# Altium schematic symbol library CX3_Camera.SchLib: 21 symbols
Pins are listed as number, name and electrical type; pins without a type are passive.

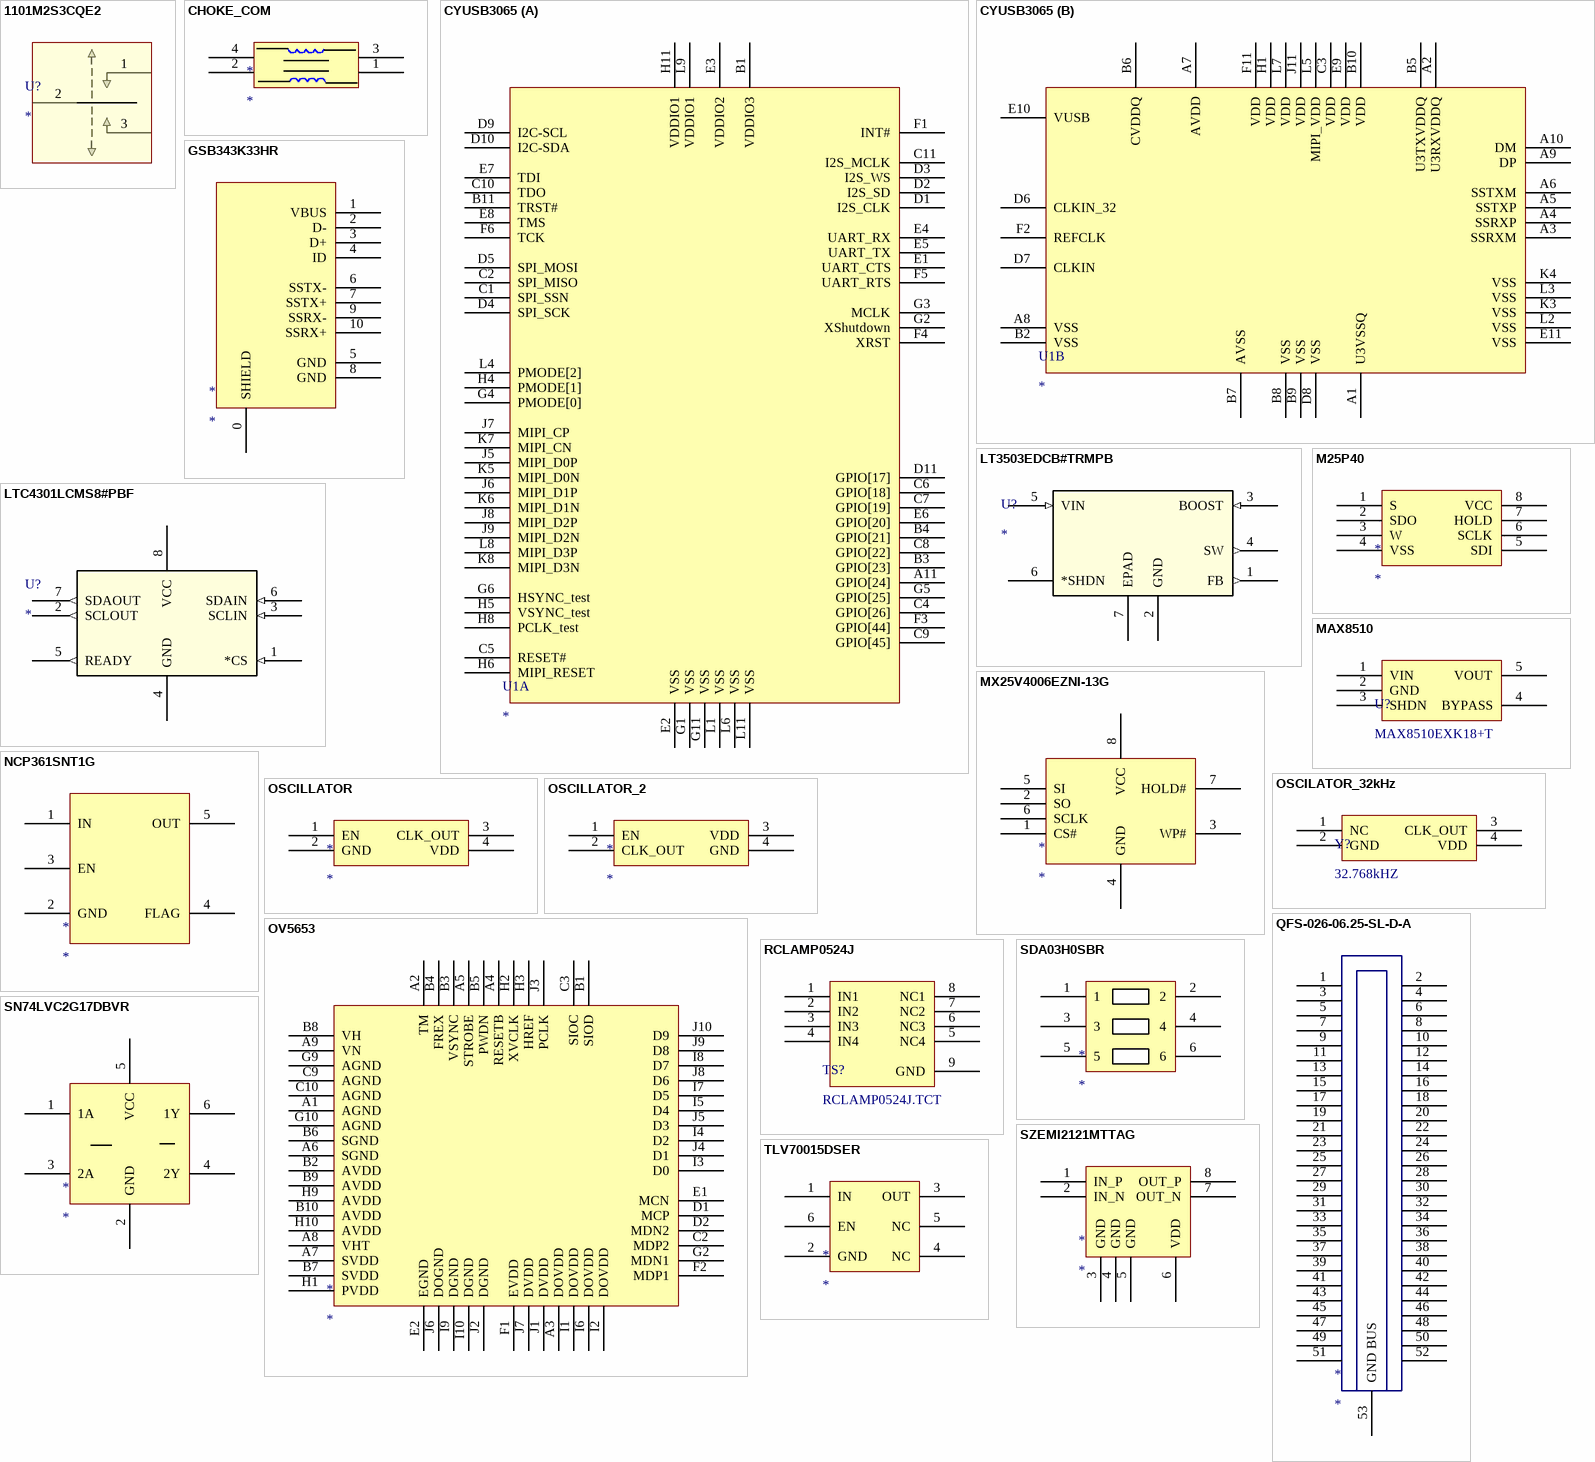
[diagram p0: symbols 1101M2S3CQE2 to TLV70015DSER]

## 1101M2S3CQE2
designator U?
Imported; Manufacturer_Part_Number: 1101M2S3CQE2; Vendor: C&K; C: Copyright (C) 2015 Accelerated Designs. All rights reserved; Copyright: Copyright (C) 2015 Accelerated Designs. All rights reserved; RefDes: RefDes; Type: Type; Value: Value
footprint 1101M2S3CQE2
pins: 1, 2, 3

## CHOKE_COM
designator *
pins: 1, 2, 3, 4

## CYUSB3065
designator U1
Cypress CX3
part A pins: A11 GPIO[24], B1 VDDIO3, B3 GPIO[23], B4 GPIO[21], B11 TRST#, C1 SPI_SSN, C2 SPI_MISO, C4 GPIO[26], C5 RESET#, C6 GPIO[18], C7 GPIO[19], C8 GPIO[22], C9 GPIO[45], C10 TDO, C11 I2S_MCLK, D1 I2S_CLK, D2 I2S_SD, D3 I2S_WS, D4 SPI_SCK, D5 SPI_MOSI, D9 I2C-SCL, D10 I2C-SDA, D11 GPIO[17], E1 UART_CTS, E2 VSS, E3 VDDIO2, E4 UART_RX, E5 UART_TX, E6 GPIO[20], E7 TDI, E8 TMS, F1 INT#, F3 GPIO[44], F4 XRST, F5 UART_RTS, F6 TCK, G1 VSS, G2 XShutdown, G3 MCLK, G4 PMODE[0], G5 GPIO[25], G6 HSYNC_test, G11 VSS, H4 PMODE[1], H5 VSYNC_test, H6 MIPI_RESET, H8 PCLK_test, H11 VDDIO1, J5 MIPI_D0P, J6 MIPI_D1P, J7 MIPI_CP, J8 MIPI_D2P, J9 MIPI_D2N, K5 MIPI_D0N, K6 MIPI_D1N, K7 MIPI_CN, K8 MIPI_D3N, L1 VSS, L4 PMODE[2], L6 VSS, L8 MIPI_D3P, L9 VDDIO1, L11 VSS
part B pins: A1 U3VSSQ, A2 U3RXVDDQ, A3 SSRXM, A4 SSRXP, A5 SSTXP, A6 SSTXM, A7 AVDD, A8 VSS, A9 DP, A10 DM, B2 VSS, B5 U3TXVDDQ, B6 CVDDQ, B7 AVSS, B8 VSS, B9 VSS, B10 VDD, C3 VDD, D6 CLKIN_32, D7 CLKIN, D8 VSS, E9 VDD, E10 VUSB, E11 VSS, F2 REFCLK, F11 VDD, H1 VDD, J11 VDD, K3 VSS, K4 VSS, L2 VSS, L3 VSS, L5 MIPI_VDD, L7 VDD

## GSB343K33HR
designator *
pins: 0 SHIELD, 1 VBUS, 2 D-, 3 D+, 4 ID, 5 GND, 6 SSTX-, 7 SSTX+, 8 GND, 9 SSRX-, 10 SSRX+

## LT3503EDCB#TRMPB
designator U?
Imported; Manufacturer_Part_Number: lt3503edcb#trmpbf; Vendor: Linear Technology; C: Copyright (C) 2016 Accelerated Designs. All rights reserved; Copyright: Copyright (C) 2016 Accelerated Designs. All rights reserved; Value: Value; Type: Type; RefDes: RefDes
footprint DFN-6_DCB
pins: 1 FB (out), 2 GND (power), 3 BOOST (in), 4 SW (out), 5 VIN (in), 6 *SHDN, 7 EPAD

## LTC4301LCMS8#PBF
designator U?
Imported; Manufacturer_Part_Number: ltc4301lcms8#pbf; Vendor: Linear Technology; Value: Value; Type: Type; RefDes: RefDes
footprint MSOP-8_MS
pins: 1 *CS (in), 2 SCLOUT (out), 3 SCLIN (in), 4 GND (power), 5 READY (out), 6 SDAIN (in), 7 SDAOUT (out), 8 VCC (power)

## M25P40
designator *
pins: 1 S, 2 SDO, 3 W, 4 VSS, 5 SDI, 6 SCLK, 7 HOLD, 8 VCC

## MAX8510
designator U?, comment MAX8510EXK18+T
pins: 1 VIN, 2 GND, 3 SHDN, 4 BYPASS, 5 VOUT

## MX25V4006EZNI-13G
designator *
pins: 1 CS#, 2 SO, 3 WP#, 4 GND, 5 SI, 6 SCLK, 7 HOLD#, 8 VCC

## NCP361SNT1G
designator *
pins: 1 IN, 2 GND, 3 EN, 4 FLAG, 5 OUT

## OSCILATOR_32kHz
designator Y?, comment 32.768kHZ
pins: 1 NC, 2 GND, 3 CLK_OUT, 4 VDD

## OSCILLATOR
designator *
pins: 1 EN, 2 GND, 3 CLK_OUT, 4 VDD

## OSCILLATOR_2
designator *
pins: 1 EN, 2 CLK_OUT, 3 VDD, 4 GND

## OV5653
designator *
pins: A1 AGND, A2 TM, A3 DOVDD, A4 RESETB, A5 STROBE, A6 SGND, A7 SVDD, A8 VHT, A9 VN, B1 SIOD, B2 AVDD, B3 VSYNC, B4 FREX, B5 PWDN, B6 SGND, B7 SVDD, B8 VH, B9 AVDD, B10 AVDD, C2 MDP2, C3 SIOC, C9 AGND, C10 AGND, D1 MCP, D2 MDN2, E1 MCN, E2 EGND, F1 EVDD, F2 MDP1, G2 MDN1, G9 AGND, G10 AGND, H1 PVDD, H2 XVCLK, H3 HREF, H9 AVDD, H10 AVDD, I1 DOVDD, I2 DOVDD, I3 D0, I4 D2, I5 D4, I6 DOVDD, I7 D5, I8 D7, I9 DGND, I10 DGND, J1 DVDD, J2 DGND, J3 PCLK, J4 D1, J5 D3, J6 DOGND, J7 DVDD, J8 D6, J9 D8, J10 D9

## QFS-026-06.25-SL-D-A
designator *
pins: 1, 2, 3, 4, 5, 6, 7, 8, 9, 10, 11, 12, 13, 14, 15, 16, 17, 18, 19, 20, 21, 22, 23, 24, 25, 26, 27, 28, 29, 30, 31, 32, 33, 34, 35, 36, 37, 38, 39, 40, 41, 42, 43, 44, 45, 46, 47, 48, 49, 50, 51, 52, 53 GND BUS

## RCLAMP0524J
designator TS?, comment RCLAMP0524J.TCT
pins: 1 IN1, 2 IN2, 3 IN3, 4 IN4, 5 NC4, 6 NC3, 7 NC2, 8 NC1, 9 GND

## SDA03H0SBR
designator *
pins: 1, 2, 3, 4, 5, 6

## SN74LVC2G17DBVR
designator *
pins: 1 1A, 2 GND, 3 2A, 4 2Y, 5 VCC, 6 1Y

## SZEMI2121MTTAG
designator *
pins: 1 IN_P, 2 IN_N, 3 GND, 4 GND, 5 GND, 6 VDD, 7 OUT_N, 8 OUT_P

## TLV70015DSER
designator *
pins: 1 IN, 2 GND, 3 OUT, 4 NC, 5 NC, 6 EN

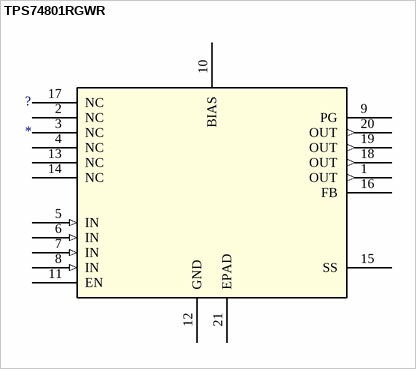
[diagram p1: symbol TPS74801RGWR]

## TPS74801RGWR
designator ?
Imported; Manufacturer_Part_Number: TPS74801RGWR; GENERIC_PART_NUMBER: TPS74801; Vendor: Texas Instruments; PACKAGE_DESIGNATOR: RGW; PIN_COUNT: 20; FAMILY_NAME: SINGLE CHANNEL LDO; INDUSTRY_STD_PKG_TYPE: VQFN; 3D_Library_Name: TI_AllParts_2012-12-25; C: Copyright (C) 2015 Accelerated Designs. All rights reserved; Copyright: Copyright (C) 2015 Accelerated Designs. All rights reserved; Datasheet_URL: http://www.ti.com/lit/gpn/TPS74801; Manufacturer: Texas Instruments; Value: Value; Type: Type; RefDes: RefDes
footprint RGW20_3P15X3P15
pins: 1 OUT (out), 2 NC, 3 NC, 4 NC, 5 IN (in), 6 IN (in), 7 IN (in), 8 IN (in), 9 PG, 10 BIAS, 11 EN, 12 GND (power), 13 NC, 14 NC, 15 SS, 16 FB, 17 NC, 18 OUT (out), 19 OUT (out), 20 OUT (out), 21 EPAD